# EAGLE library part PICAXE-14M2 (library PICAXE)
PICAXE chips come in two series – the M2 and X2 series – and 6 physical sizes (8, 14, 18, 20, 28, 40 pin). Feature 08M2 14M2 18M2 20M2 20X2 28X2 40X2 Memory Capacity(bytes) 2048 2048 x2 2048 x2 2048 x2 4096 4096 x4 4096 x4 RAM (bytes) 128 512 512 512 256 1280 1280 Byte Variables (bytes) 28 28 28 28 56 56 56 Input/Outputs Pins 6 12 16 18 18 22 33 ADC/Touch Pins 3 7 10 11 11 16 27 Max. Freq. (MHz) 32 32 32 32 64 64 64 Serial In/Out Yes Yes Yes Yes Yes Yes Yes Infrared In/Out Yes Yes Yes Yes Yes Yes Yes I2C Yes Yes Yes Yes Yes Yes Yes Tune (ring tones) Yes Yes Yes Yes Yes Yes Yes Parallel Tasks 4 8 8 8 1 1 1 Program Slots 1 2 2 2 1 4 4
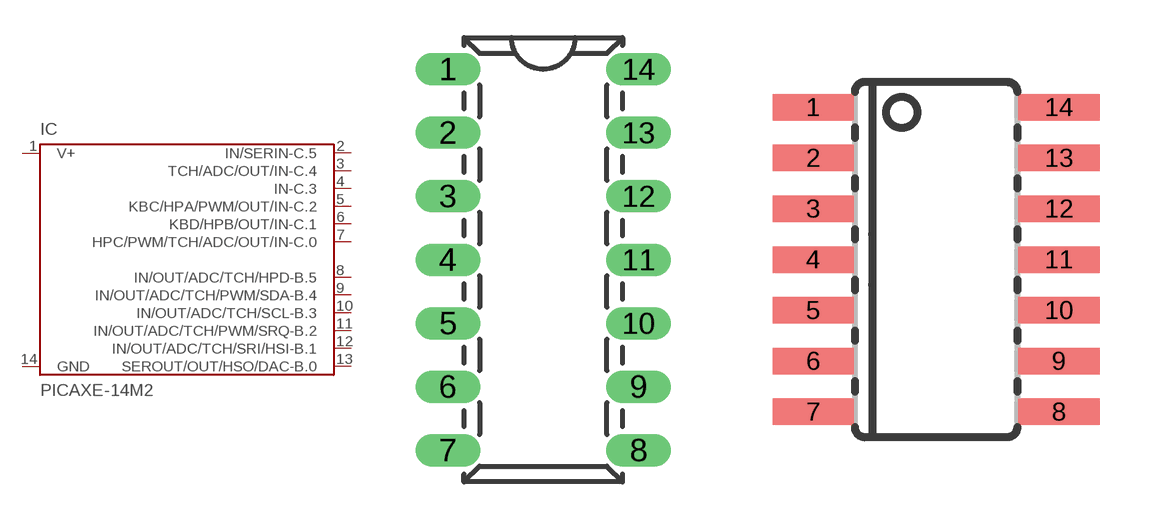
[diagram p1: symbol with the pads of DIL14; footprints DIL14, SOIC14]

Designator prefix IC

## PICAXE-14M2-DIL  [DIL14]
1  V+  pwr
2  IN/SERIN-C.5  in
3  TCH/ADC/OUT/IN-C.4
4  IN-C.3  in
5  KBC/HPA/PWM/OUT/IN-C.2
6  KBD/HPB/OUT/IN-C.1
7  HPC/PWM/TCH/ADC/OUT/IN-C.0
8  IN/OUT/ADC/TCH/HPD-B.5
9  IN/OUT/ADC/TCH/PWM/SDA-B.4
10  IN/OUT/ADC/TCH/SCL-B.3
11  IN/OUT/ADC/TCH/PWM/SRQ-B.2
12  IN/OUT/ADC/TCH/SRI/HSI-B.1
13  SEROUT/OUT/HSO/DAC-B.0  out
14  GND  pwr

## PICAXE-14M2-SMD  [SOIC14]
Pads as for DIL14

## Footprint DIL14 (pad centres in mm)
drill 0.8 pad 1.27 long: 1 -3.81,7.62; 2 -3.81,5.08; 3 -3.81,2.54; 4 -3.81,0; 5 -3.81,-2.54; 6 -3.81,-5.08; 7 -3.81,-7.62; 8 3.81,-7.62; 9 3.81,-5.08; 10 3.81,-2.54; 11 3.81,0; 12 3.81,2.54; 13 3.81,5.08; 14 3.81,7.62

## Footprint SOIC14 (pad centres in mm)
smd 2.032 x 0.66: 1 -3.232,3.81; 2 -3.232,2.54; 3 -3.232,1.27; 4 -3.232,0; 5 -3.232,-1.27; 6 -3.232,-2.54; 7 -3.232,-3.81; 8 2.915,-3.81; 9 2.915,-2.54; 10 2.915,-1.27; 11 2.915,0; 12 2.915,1.27; 13 2.915,2.54; 14 2.915,3.81